# Altium footprint library lite-on.PcbLib: 1 footprints
Each footprint in its own frame and in the unit in brackets; x right, y up, seen from the top. Pads: shape width x height; smd on the part's side, far side on the other; paste and mask are expansions set on the pad; w line width, h text height; cw(c..) or ccw(c..) is an arc to the next point about the centre after c.
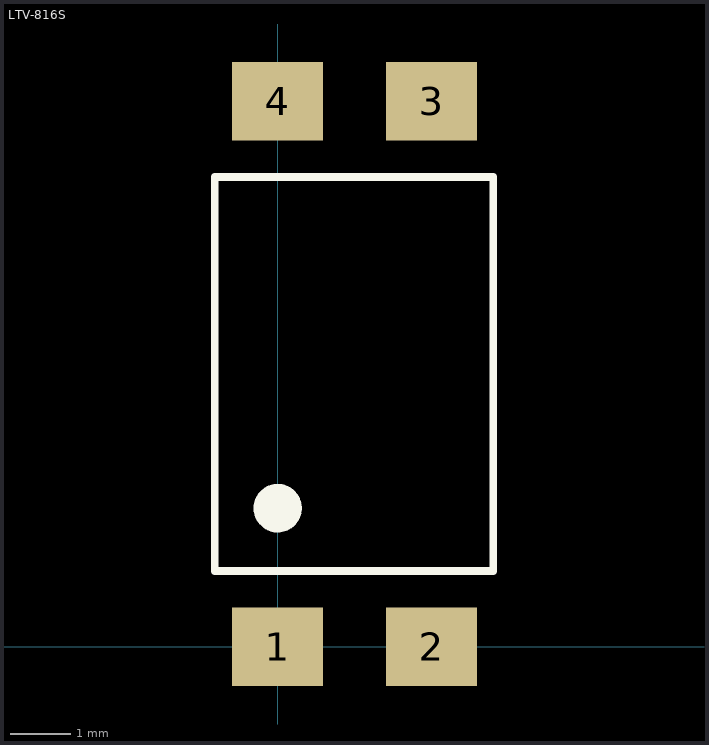
[diagram p0: the footprint, top view; thin cyan lines are the x and y axes]

## LTV-816S [mm]
pads (4):
  rect 1.5x1.3 smd: 1(0,0) 2(2.54,0) 3(2.54,9) 4(0,9)
Top Overlay:
  circle w0.4: c0,2.286 r0.2
  lines w0.127: -1.04,7.747 -1.04,1.25 3.56,1.25 3.56,7.747 ; -1.04,7.75 3.56,7.75
3D body: height 3.95, standoff 0.05, extent -1.146,-0.57 3.686,9.46